# EAGLE library part TRACO_TMR_2WI (library open-bldc)
DC/DC Converter TRACO TMR 2WI Series
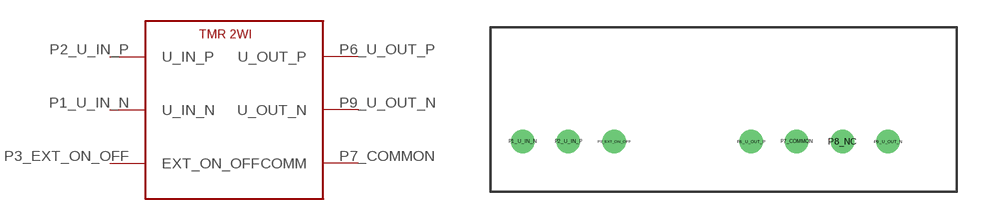
[diagram p28: symbol with the pads of TRACO_TMR_2WI; footprint TRACO_TMR_2WI]

Designator prefix -

## TRACO_TMR_2WI  [TRACO_TMR_2WI]
P1_U_IN_N  U_IN_N
P2_U_IN_P  U_IN_P
P3_EXT_ON_OFF  EXT_ON_OFF
P6_U_OUT_P  U_OUT_P
P7_COMMON  COMM
P9_U_OUT_N  U_OUT_N

## Footprint TRACO_TMR_2WI (pad centres in mm)
drill 0.8: P1_U_IN_N 0,0; P2_U_IN_P 2.54,0; P3_EXT_ON_OFF 5.08,0; P6_U_OUT_P 12.7,0; P7_COMMON 15.24,0; P8_NC 17.78,0; P9_U_OUT_N 20.32,0